# EAGLE library part 74VHC4053AFT (library pimoroni-ics)
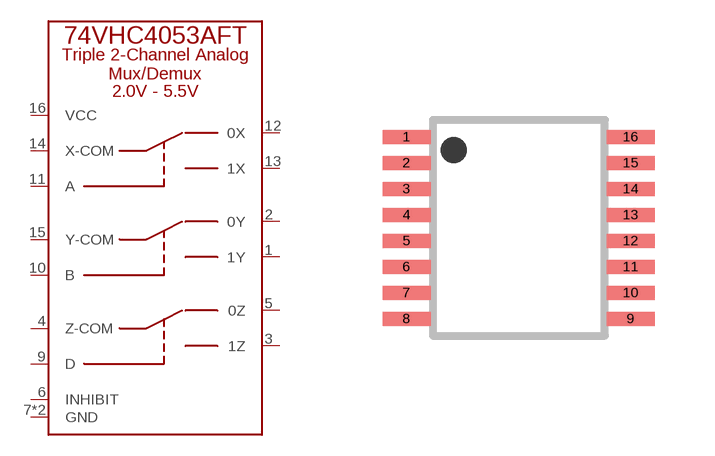
[diagram p108: symbol with the pads of TSSOP-16-TI; footprint TSSOP-16-TI]

Designator prefix U

## 74VHC4053AFT  [TSSOP-16-TI]
1  1Y
2  0Y
3  1Z
4  Z-COM
5  0Z
6  INHIBIT
7  GND
8  GND
9  D
10  B
11  A
12  0X
13  1X
14  X-COM
15  Y-COM
16  VCC

## Footprint TSSOP-16-TI (pad centres in mm)
PW (R-PDSO-G8) Source: http://focus.ti.com/lit/ds/symlink/ads1271.pdf
smd 1.2 x 0.35: 1 -2.808,2.275; 2 -2.808,1.625; 3 -2.808,0.975; 4 -2.808,0.325; 5 -2.808,-0.325; 6 -2.808,-0.975; 7 -2.808,-1.625; 8 -2.808,-2.275; 9 2.795,-2.275; 10 2.795,-1.625; 11 2.795,-0.975; 12 2.795,-0.325; 13 2.795,0.325; 14 2.795,0.975; 15 2.795,1.625; 16 2.795,2.275